# Altium schematic symbol library DIODE_RGB_CA.SCHLIB: 1 symbol
Pins are listed as number, name and electrical type; pins without a type are passive.

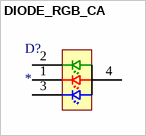
[diagram p0: symbol DIODE_RGB_CA]

## DIODE_RGB_CA
designator D?
Value: *
pins: 1 C2, 2 C3, 3 C1, 4 A3